# Altium schematic symbol library Schlib1.SchLib: 2 symbols
Pins are listed as number, name and electrical type; pins without a type are passive.

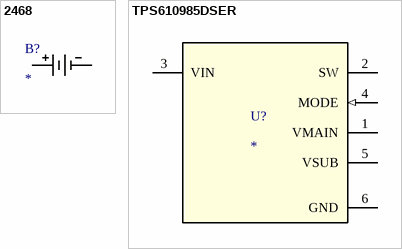
[diagram p0: symbols 2468 to TPS610985DSER]

## 2468
designator B?
No Description Available; Mfr_Name: Keystone Electronics
footprint 2468_KEY
pins: 1, 2

## TPS610985DSER
designator U?
No Description Available; Mfr_Name: Texas Instruments; TYPE: TYPE; RefDes: RefDes
footprint DSE0006A
pins: 1 VMAIN (power), 2 SW (power), 3 VIN (power), 4 MODE (in), 5 VSUB (power), 6 GND (power)